# EAGLE library part MAX31856 (library MAX31856)
The MAX31856 performs cold-junction compensation and digitizes the signal from any type of thermocouple. The output data is formatted in degrees Celsius. This converter resolves temperatures to 0.0078125°C, allows readings as high as +1800°C and as low as -210°C (depending on thermocouple type), and exhibits thermocouple voltage measurement accuracy of ±0.15%. The thermocouple inputs are protected against overvoltage conditions up to ±45V.
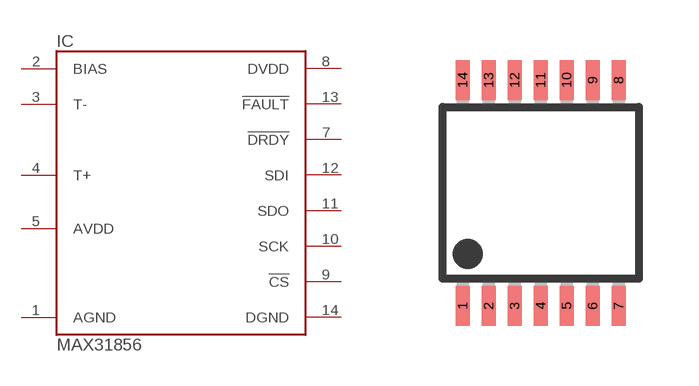
[diagram p0: symbol with the pads of TSSOP14; footprint TSSOP14]

Designator prefix IC

## MAX31856MUD+  [TSSOP14]
1  AGND
2  BIAS
3  T-
4  T+
5  AVDD
7  !DRDY!
8  DVDD
9  !CS!
10  SCK
11  SDO
12  SDI
13  !FAULT!
14  DGND

## Footprint TSSOP14 (pad centres in mm)
14-Lead Plastic Thin Shrink Small Outline Package
smd 0.35 x 1: 1 -1.95,-2.825; 2 -1.3,-2.825; 3 -0.65,-2.825; 4 0,-2.825; 5 0.65,-2.825; 6 1.3,-2.825; 7 1.95,-2.825; 8 1.95,2.825; 9 1.3,2.825; 10 0.65,2.825; 11 0,2.825; 12 -0.65,2.825; 13 -1.3,2.825; 14 -1.95,2.825